# Altium schematic symbol library Logic_Programmable.SchLib: 6 symbols
Pins are listed as number, name and electrical type; pins without a type are passive.

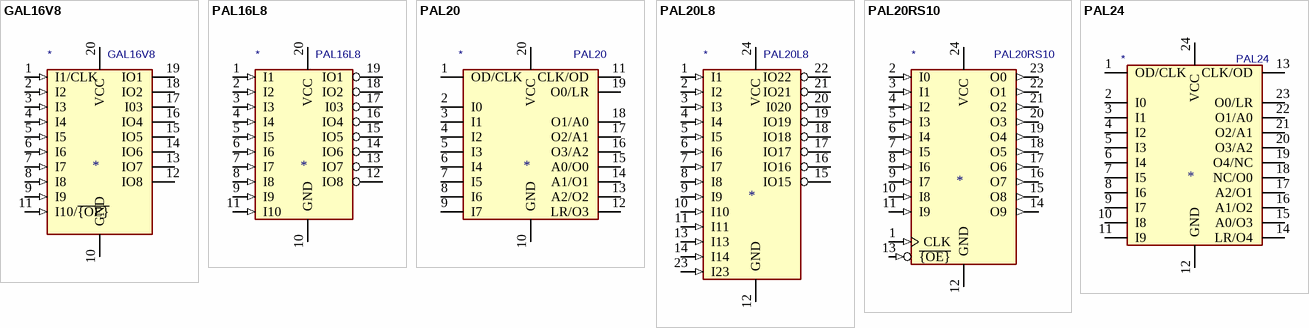
[diagram p0: symbols GAL16V8 to PAL24]

## GAL16V8
designator *  value GAL16V8
ki_keywords: GAL PLD 16V8; ki_description: Programmable Logic Array, DIP-20/SOIC-20/PLCC-20; ki_fp_filters: DIP* PDIP* SOIC* SO* PLCC*
pins: 1 I1/CLK (in), 2 I2 (in), 3 I3 (in), 4 I4 (in), 5 I5 (in), 6 I6 (in), 7 I7 (in), 8 I8 (in), 9 I9 (in), 10 GND (power), 11 I10/~{{OE}} (in), 12 IO8 (hiz), 13 IO7 (hiz), 14 IO6 (hiz), 15 IO5 (hiz), 16 IO4 (hiz), 17 I03 (hiz), 18 IO2 (hiz), 19 IO1 (hiz), 20 VCC (power)

## PAL16L8
designator *  value PAL16L8
ki_keywords: PAL PLD 16L8; ki_description: Programmable Logic Array, DIP-20; ki_fp_filters: DIP* PDIP*
pins: 1 I1 (in), 2 I2 (in), 3 I3 (in), 4 I4 (in), 5 I5 (in), 6 I6 (in), 7 I7 (in), 8 I8 (in), 9 I9 (in), 10 GND (power), 11 I10 (in), 12 IO8 (hiz), 13 IO7 (hiz), 14 IO6 (hiz), 15 IO5 (hiz), 16 IO4 (hiz), 17 I03 (hiz), 18 IO2 (hiz), 19 IO1 (hiz), 20 VCC (power)

## PAL20
designator *  value PAL20
ki_keywords: logic programmable PAL; ki_description: generic 20-pin Programmable Array Logic (PAL) device; Supplier: ~
pins: 1 OD/CLK, 2 I0, 3 I1, 4 I2, 5 I3, 6 I4, 7 I5, 8 I6, 9 I7, 10 GND, 11 CLK/OD, 12 LR/O3, 13 A2/O2, 14 A1/O1, 15 A0/O0, 16 O3/A2, 17 O2/A1, 18 O1/A0, 19 O0/LR, 20 VCC

## PAL20L8
designator *  value PAL20L8
ki_keywords: PAL PLD 20L8; ki_description: Programmable Logic Array, DIP-24; ki_fp_filters: DIP* PDIP*
pins: 1 I1 (in), 2 I2 (in), 3 I3 (in), 4 I4 (in), 5 I5 (in), 6 I6 (in), 7 I7 (in), 8 I8 (in), 9 I9 (in), 10 I10 (in), 11 I11 (in), 12 GND (power), 13 I13 (in), 14 I14 (in), 15 IO15 (hiz), 16 IO16 (hiz), 17 IO17 (hiz), 18 IO18 (hiz), 19 IO19 (hiz), 20 I020 (hiz), 21 IO21 (hiz), 22 IO22 (hiz), 23 I23 (in), 24 VCC (power)

## PAL20RS10
designator *  value PAL20RS10
ki_keywords: PAL PLD 20RS10; ki_description: Programmable Logic Array, DIP-24 (Narrow); ki_fp_filters: DIP* PDIP*
pins: 1 CLK (in), 2 I0 (in), 3 I1 (in), 4 I2 (in), 5 I3 (in), 6 I4 (in), 7 I5 (in), 8 I6 (in), 9 I7 (in), 10 I8 (in), 11 I9 (in), 12 GND (power), 13 ~{{OE}} (in), 14 O9 (out), 15 O8 (out), 16 O7 (out), 17 O6 (out), 18 O5 (out), 19 O4 (out), 20 O3 (out), 21 O2 (out), 22 O1 (out), 23 O0 (out), 24 VCC (power)

## PAL24
designator *  value PAL24
ki_keywords: logic programmable PAL; ki_description: generic 24-pin Programmable Array Logic (PAL) device; Supplier: ~
pins: 1 OD/CLK, 2 I0, 3 I1, 4 I2, 5 I3, 6 I4, 7 I5, 8 I6, 9 I7, 10 I8, 11 I9, 12 GND, 13 CLK/OD, 14 LR/O4, 15 A0/O3, 16 A1/O2, 17 A2/O1, 18 NC/O0, 19 O4/NC, 20 O3/A2, 21 O2/A1, 22 O1/A0, 23 O0/LR, 24 VCC